# Altium integrated library Ferrite Bead.IntLib: 1 symbol
Pins are listed as number, name and electrical type; pins without a type are passive.

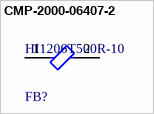
[diagram p0: symbol CMP-2000-06407-2]

## CMP-2000-06407-2
designator FB?, comment HI1206T500R-10
FERRITE BEAD 50 OHM 1206 1LN; Impedance: 50R; Max DC Current: 6A; Frequency: 100MHz; Number of Lines: 1; DC Resistance (DCR): 10mR; Core Material: Ferrite; Max Operating Temperature: 125°C; Weight: 0.000944oz; Width: 0.063inch; Termination: SMD/SMT; Case Code (Imperial): 1206; Contact Plating: Tin; Material: Ferrite; Current Rating: 6A; Height: 0.051inch; RoHS Compliant: Yes; Case Code (Metric): 3216; Package Quantity: 1; Depth: 1.8mm; Min Operating Temperature: -40°C; Lead Free: Lead Free; Test Frequency: 100MHz; Packaging: Tape and Reel; Case/Package: 1206; Mount: Surface Mount; Series: HI; Max Current Rating: 6A; Length: 3.2mm
footprint FP-HI1206T500R-10-IPC_A
footprint FP-HI1206T500R-10-IPC_C
footprint FP-HI1206T500R-10-MFG
footprint FP-HI1206T500R-10-IPC_B
pins: 1, 2